# EAGLE library part RJ45-8_GND (library SKAARHOJ)
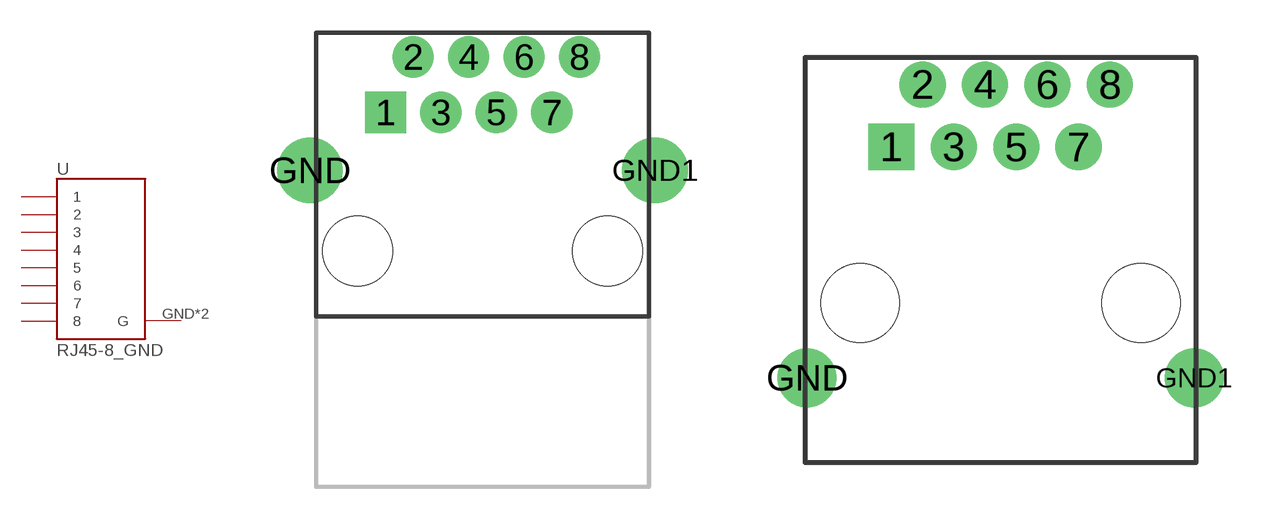
[diagram p0: symbol with the pads of RJ45-8_GND; footprints RJ45-8_GND, RJ45-8_GND_UPRIGHT]

Designator prefix -

## RJ45-8_GND  [RJ45-8_GND]
1  1
2  2
3  3
4  4
5  5
6  6
7  7
8  8
GND  G  pwr
GND1  G  pwr

## RJ45-8_GNDUPRIGHT  [RJ45-8_GND_UPRIGHT]
Pads as for RJ45-8_GND

## RJ45-8_GNDINVERTED  [RJ45_INV]
Pads as for RJ45-8_GND

## Footprint RJ45-8_GND (pad centres in mm)
drill 1 pad 1.88 square: 1 -4.445,6.35
drill 1 pad 1.88: 2 -3.175,8.89; 3 -1.905,6.35; 4 -0.635,8.89; 5 0.635,6.35; 6 1.905,8.89; 7 3.175,6.35; 8 4.445,8.89
drill 2: GND -7.9,3.7; GND1 7.9,3.7
hole 3.2 at -5.715,0
hole 3.2 at 5.715,0

## Footprint RJ45-8_GND_UPRIGHT (pad centres in mm)
drill 1 pad 1.88 square: 1 -4.445,6.35
drill 1 pad 1.88: 2 -3.175,8.89; 3 -1.905,6.35; 4 -0.635,8.89; 5 0.635,6.35; 6 1.905,8.89; 7 3.175,6.35; 8 4.445,8.89
drill 1.6: GND -7.88,-3.05; GND1 7.88,-3.05
hole 3.2 at -5.715,0
hole 3.2 at 5.715,0

## Footprint RJ45_INV (pad centres in mm)
drill 0.889 square: 1 3.556,2.54
drill 0.889: 2 2.54,4.318; 3 1.524,2.54; 4 0.508,4.318; 5 -0.508,2.54; 6 -1.524,4.318; 7 -2.54,2.54; 8 -3.556,4.318
drill 2: GND -7.9,3.7; GND1 7.9,3.7
hole 3.251 at -6.35,0
hole 3.251 at 6.35,0